# Altium footprint library BAV756S.PcbLib: 2 footprints
Each footprint in its own frame and in the unit in brackets; x right, y up, seen from the top. Pads: shape width x height; smd on the part's side, far side on the other; paste and mask are expansions set on the pad; w line width, h text height; cw(c..) or ccw(c..) is an arc to the next point about the centre after c.
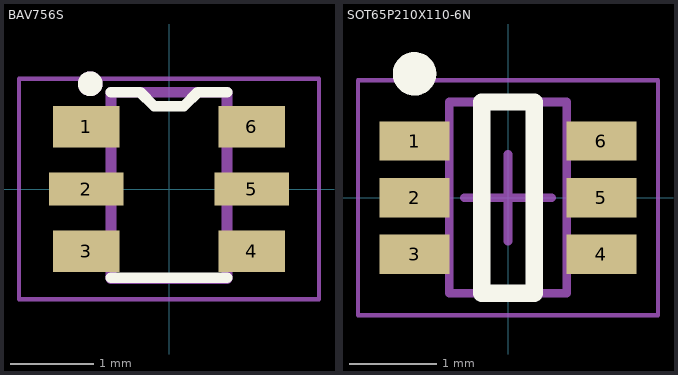
[diagram p0: the footprints below, top view; thin cyan lines are the x and y axes]

## BAV756S [mm]
pads (6):
  rect 0.8x0.5 smd: 1(-1,0.75) 3(-1,-0.75) 4(1,-0.75) 6(1,0.75)
  rect 0.9x0.4 smd: 2(-1,0) 5(1,0)
Top Overlay:
  circle w0.2: c-0.95,1.27 r0.05
  lines w0.127: -0.7,-1.07 0.7,-1.07 ; -0.7,1.17 -0.35,1.17 -0.18,1 0.18,1 0.35,1.17 0.7,1.17
Mechanical 13:
  circle w0.2: c-0.95,1.27 r0.05
  lines w0.127: -0.7,-1.08 0.7,-1.08 0.7,1.17 -0.7,1.17 -0.7,-1.08
Mechanical 15:
  lines w0.05: -1.81,-1.33 -1.81,1.33 1.81,1.33 1.81,-1.33 -1.81,-1.33

## SOT65P210X110-6N [mm] "SOT23, 6-Leads, Body 2,00x2,10mm, Pitch 0,65mm, IPC Medium Density"
height 1.1
pads (6):
  rect 0.8x0.45 smd: 1(-1.075,0.65) 2(-1.075,0) 3(-1.075,-0.65) 4(1.075,-0.65) 5(1.075,0) 6(1.075,0.65)
Top Overlay:
  circle w0.25: c-1.075,1.425 r0.125
  lines w0.2: -0.3,-1.1 0.3,-1.1 0.3,1.1 -0.3,1.1 -0.3,-1.1
Mechanical 13:
  lines w0.1: -0.675,-1.1 -0.675,1.1 0.675,1.1 0.675,-1.1 -0.675,-1.1
Mechanical 15:
  lines w0.05: -1.725,-1.35 -1.725,1.35 1.725,1.35 1.725,-1.35 -1.725,-1.35
  lines w0.1: -0.5,0 0.5,0 ; 0,-0.5 0,0.5
3D body "SOT65P210X110-6N.step": height 1.1, standoff 0, extent -1.1,-1.1 1.1,1.1